# Altium schematic symbol library SCH - CONNECTORS - TE - 5227661-1.SCHLIB: 1 symbol
Pins are listed as number, name and electrical type; pins without a type are passive.

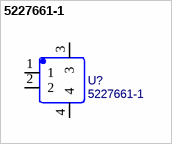
[diagram p0: symbol 5227661-1]

## 5227661-1
designator U?
BOM_Manufacturer: TE Connectivity(美国泰科); Contributor: LCSC; BOM_Supplier: LCSC; BOM_Supplier Part: C305920; BOM_Manufacturer Part: 5227661-1; BOM_JLCPCB Part Class: Extended Part; spicePre: U; spiceSymbolName: 5227661-1
footprint RF-TH_5227661-1
pins: 1, 2, 3, 4